# Altium schematic symbol library SCH - CRYSTALS - ECS ECS-80-12-33-JGN-TR.SCHLIB: 1 symbol
Pins are listed as number, name and electrical type; pins without a type are passive.

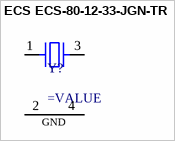
[diagram p0: symbol ECS ECS-80-12-33-JGN-TR]

## ECS ECS-80-12-33-JGN-TR
designator Y?
pins: 1, 2, 3, 4
text: GND